# Altium footprint library XDCR_ACS711KEXLT-15AB-T.PcbLib: 1 footprints
Each footprint in its own frame and in the unit in brackets; x right, y up, seen from the top. Pads: shape width x height; smd on the part's side, far side on the other; paste and mask are expansions set on the pad; w line width, h text height; cw(c..) or ccw(c..) is an arc to the next point about the centre after c.
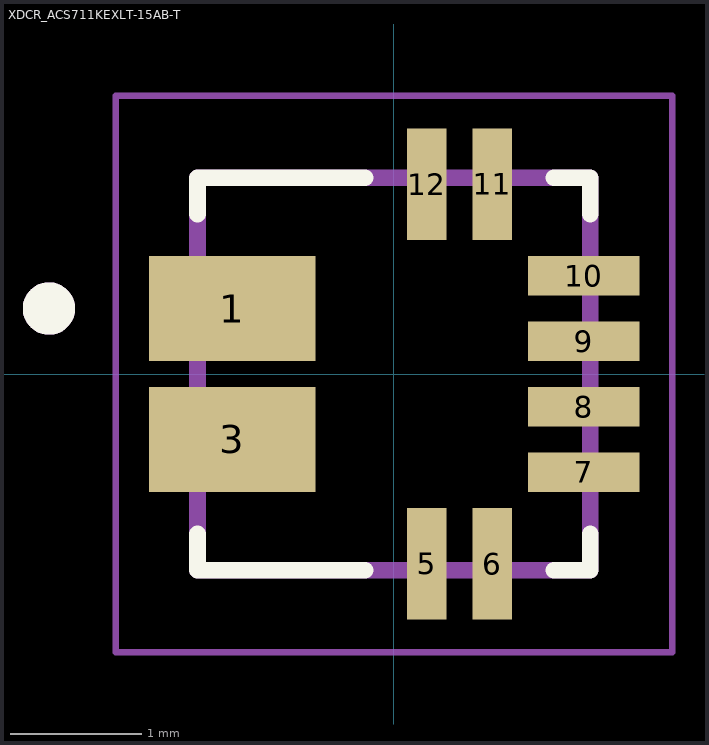
[diagram p0: the footprint, top view; thin cyan lines are the x and y axes]

## XDCR_ACS711KEXLT-15AB-T [mm]
pads (10):
  rect 1.27x0.8 smd mask+0: 1(-1.235,0.5) 3(-1.235,-0.5)
  rect 0.3x0.85 smd mask+0.025: 5(0.25,-1.45) 6(0.75,-1.45) 11(0.75,1.45) 12(0.25,1.45)
  rect 0.85x0.3 smd mask+0.025: 7(1.45,-0.75) 8(1.45,-0.25) 9(1.45,0.25) 10(1.45,0.75)
Top Overlay:
  circle w0.2: c-2.635,0.5 r0.1
  lines w0.127: -1.5,-1.22 -1.5,-1.5 -0.22,-1.5 ; -1.5,1.22 -1.5,1.5 -0.22,1.5 ; 1.22,-1.5 1.5,-1.5 1.5,-1.22 ; 1.22,1.5 1.5,1.5 1.5,1.22
Top Solder:
  region: -0.565,0.05 -1.935,0.05 -1.935,0.95 -0.565,0.95
  region: -0.565,-0.95 -1.935,-0.95 -1.935,-0.05 -0.565,-0.05
Assembly Top:
  circle w0.2: c-2.635,0.5 r0.1
  lines w0.127: -1.5,-1.5 1.5,-1.5 1.5,1.5 -1.5,1.5 -1.5,-1.5
Courtyard Top:
  lines w0.05: -2.125,-2.125 -2.125,2.125 2.125,2.125 2.125,-2.125 -2.125,-2.125
3D body "step_temp.STEP": height 1.75, standoff 0, extent -3,-2.45 3,2.45